# EAGLE library part RT6160AWSC_RT6160AWSC (library InkTime_v5)
Buck-Boost Regulator Positive Output Step-Up/Step-Down I2C DC-DC Controller IC 15-WL-CSP (BSC) (1.4x2.3) Source: Datasheet <https://www.richtek.com/SaveDownload.aspx?specid=RT6160A>
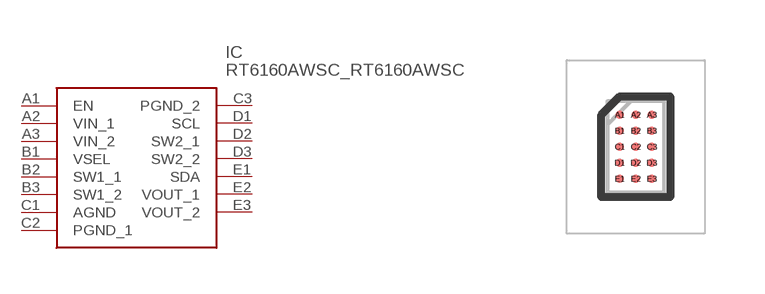
[diagram p1: symbol with the pads of RT6160AWSC_BGA15C40P3X5_140X230X60; footprint RT6160AWSC_BGA15C40P3X5_140X230X60]

Designator prefix IC

## RT6160AWSC_RT6160AWSC  [RT6160AWSC_BGA15C40P3X5_140X230X60]
A1  EN
A2  VIN_1
A3  VIN_2
B1  VSEL
B2  SW1_1
B3  SW1_2
C1  AGND
C2  PGND_1
C3  PGND_2
D1  SCL
D2  SW2_1
D3  SW2_2
E1  SDA
E2  VOUT_1
E3  VOUT_2

## Footprint RT6160AWSC_BGA15C40P3X5_140X230X60 (pad centres in mm)
15B WL-CSP 1.4x2.3 Package (BSC)
smd 0.216 x 0.216: A1 -0.4,0.8; A2 0,0.8; A3 0.4,0.8; B1 -0.4,0.4; B2 0,0.4; B3 0.4,0.4; C1 -0.4,0; C2 0,0; C3 0.4,0; D1 -0.4,-0.4; D2 0,-0.4; D3 0.4,-0.4; E1 -0.4,-0.8; E2 0,-0.8; E3 0.4,-0.8